# EAGLE library part BAV99DUAL (library diodes)
DIODE ARRAY GP 75V 215MA
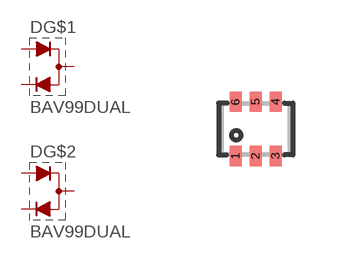
[diagram p1: symbol with the pads of SOT563; footprint SOT563]

Designator prefix D; gates G$1=D1A1C1CA G$2=D1A1C1CA

## BAV99DUALV (DIGIKEY: BAV99BRV-7DICT-ND; P1I: o)  [SOT563]
1  G$1:A  pas
2  G$2:C  pas
3  G$2:CA  pas
4  G$2:A  pas
5  G$1:C  pas
6  G$1:CA  pas

## BAV99DUALVA (DIGIKEY: BAV99BRVA-7DICT-ND; P1I: o)  [SOT563]
1  G$1:A  pas
2  G$1:C  pas
3  G$2:CA  pas
4  G$2:A  pas
5  G$2:C  pas
6  G$1:CA  pas

## Footprint SOT563 (pad centres in mm)
SOT-563 DRL (R-PDSO-N6)
smd 0.3 x 0.5: 1 -0.5,-0.675; 2 0,-0.675; 3 0.5,-0.675; 4 0.5,0.675; 5 0,0.675; 6 -0.5,0.675